# Altium footprint library MURA-BLM18PG-B40-CHIP-2_V2.PcbLib: 1 footprints
Each footprint in its own frame and in the unit in brackets; x right, y up, seen from the top. Pads: shape width x height; smd on the part's side, far side on the other; paste and mask are expansions set on the pad; w line width, h text height; cw(c..) or ccw(c..) is an arc to the next point about the centre after c.
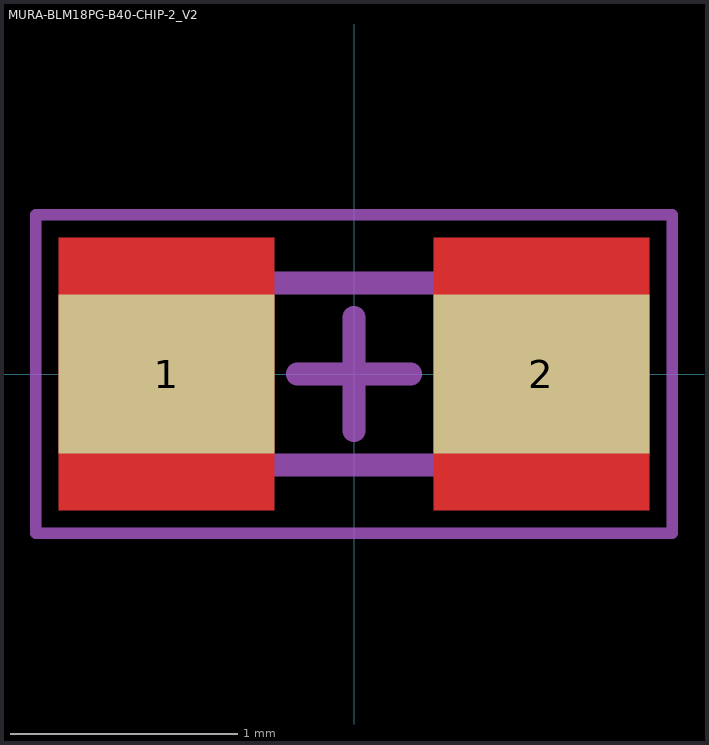
[diagram p0: the footprint, top view; thin cyan lines are the x and y axes]

## MURA-BLM18PG-B40-CHIP-2_V2 [mm] "Chip Ferrite Bead, 2-Leads, Body 1.6x0.8mm, Height 0.95mm, Flow, 35um Land Pad Thickness, 3 to 4A Rated Current"
height 0.95
pads (2):
  rect 0.95x0.7 smd mask+0: 1(-0.825,0) 2(0.825,0)
Top Layer:
  rectangle: 0.35,-0.6 1.3,0.6
  rectangle: -1.3,-0.6 -0.35,0.6
Mechanical 6:
  text "Land Pattern Adapted for Flow Soldering and 35um Land Pad Thickness" at -1.65,0.8 h0.05
Mechanical 13:
  lines w0.1: -0.8,-0.4 -0.8,0.4 0.8,0.4 0.8,-0.4 -0.8,-0.4
Mechanical 15:
  lines w0.05: -1.4,-0.7 1.4,-0.7 1.4,0.7 -1.4,0.7 -1.4,-0.7
  lines w0.1: -0.25,0 0.25,0 ; 0,-0.25 0,0.25
3D body: height 0.95, standoff 0, extent -0.8,-0.4 0.8,0.4